# Altium integrated library REF5045ID.IntLib: 1 symbol
Pins are listed as number, name and electrical type; pins without a type are passive.

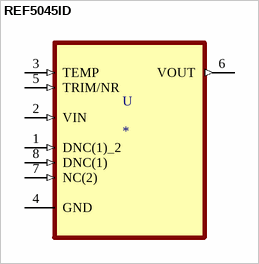
[diagram p0: symbol REF5045ID]

## REF5045ID
designator U
Series Voltage Reference IC Â±0.05% 8-VSSOP; MF: Texas Instruments; MP: REF5045ID; SnapEDA_Link: https://www.snapeda.com/parts/REF5045ID/Texas%20Instruments/view-part/1131648/?ref=snap; Availability: Unavailable; DigiKey-Purchase-URL: https://snapeda.com/shop?store=DigiKey&id=1131648; Package: SOIC-8 Texas Instruments; Value: *; Price: None
footprint SOIC127P600X175-8N
pins: 1 DNC(1)_2 (in), 2 VIN (in), 3 TEMP (in), 4 GND, 5 TRIM/NR (in), 6 VOUT (out), 7 NC(2) (in), 8 DNC(1) (in)